# Altium schematic symbol library Schlib1.SchLib: 6 symbols
Pins are listed as number, name and electrical type; pins without a type are passive.

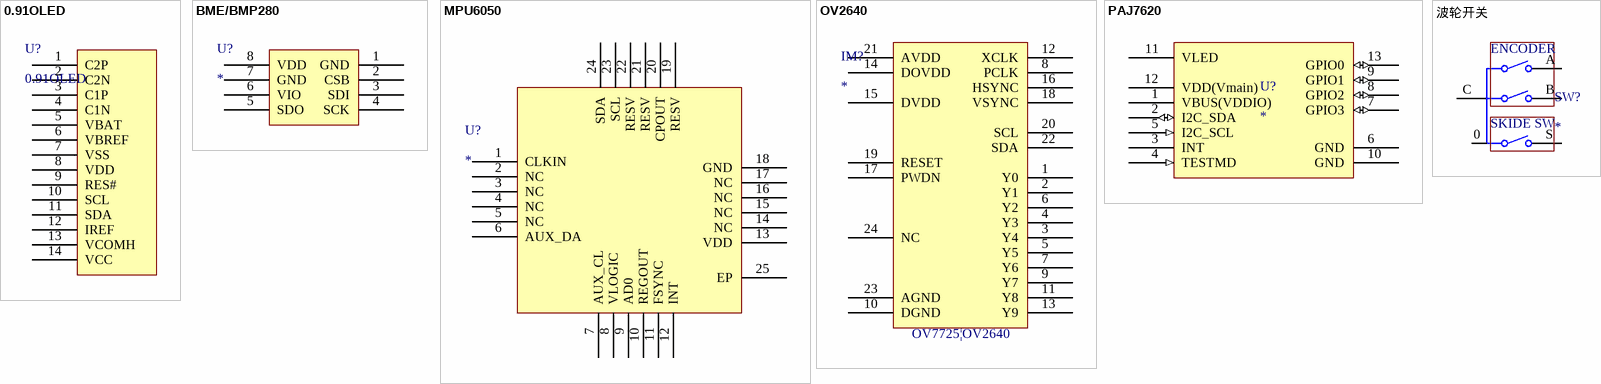
[diagram p0: symbols 0.91OLED to 波轮开关]

## 0.91OLED
designator U?
footprint 0.91OLED (30*11.50.91OLED)
pins: 1 C2P, 2 C2N, 3 C1P, 4 C1N, 5 VBAT, 6 VBREF, 7 VSS, 8 VDD, 9 RES#, 10 SCL, 11 SDA, 12 IREF, 13 VCOMH, 14 VCC

## BME/BMP280
designator U?
footprint BME/BMP280
pins: 1 GND, 2 CSB, 3 SDI, 4 SCK, 5 SDO, 6 VIO, 7 GND, 8 VDD

## MPU6050
designator U?
footprint MPU6050
pins: 1 CLKIN, 2 NC, 3 NC, 4 NC, 5 NC, 6 AUX_DA, 7 AUX_CL, 8 VLOGIC, 9 AD0, 10 REGOUT, 11 FSYNC, 12 INT, 13 VDD, 14 NC, 15 NC, 16 NC, 17 NC, 18 GND, 19 RESV, 20 CPOUT, 21 RESV, 22 RESV, 23 SCL, 24 SDA, 25 EP

## OV2640
designator IM?
footprint FPC0.5 2H-WS-24P (长：16.2mm，宽：5.2mm，高：2mm 淘宝ID:黄晶宝石   店铺网址:https://shop463601444.taobao.com)
pins: 1 Y0, 2 Y1, 3 Y4, 4 Y3, 5 Y5, 6 Y2, 7 Y6, 8 PCLK, 9 Y7, 10 DGND, 11 Y8, 12 XCLK, 13 Y9, 14 DOVDD, 15 DVDD, 16 HSYNC, 17 PWDN, 18 VSYNC, 19 RESET, 20 SCL, 21 AVDD, 22 SDA, 23 AGND, 24 NC
text: OV7725|OV2640

## PAJ7620
designator U?
footprint PAJ7620
pins: 1 VBUS(VDDIO) (power), 2 I2C_SDA (io), 3 INT, 4 TESTMD (in), 5 I2C_SCL (in), 6 GND (power), 7 GPIO3 (io), 8 GPIO2 (io), 9 GPIO1 (io), 10 GND (power), 11 VLED (power), 12 VDD(Vmain) (power), 13 GPIO0 (io)

## 波轮开关
designator SW?
footprint SIQ-02FVS3
pins: 0 5, A, B, C (power), S
text: ENCODER; SKIDE SW